# EAGLE library part RNET (library paper_tape)
Resistor Network
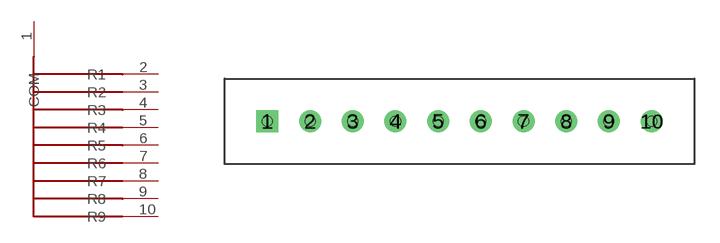
[diagram p3: symbol with the pads of SIP10; footprint SIP10]

Designator prefix RN

## RNET  [SIP10]
1  COM
2  R1
3  R2
4  R3
5  R4
6  R5
7  R6
8  R7
9  R8
10  R9

## Footprint SIP10 (pad centres in mm)
drill 0.8 square: 1 -10.16,0
drill 0.8: 2 -7.62,0; 3 -5.08,0; 4 -2.54,0; 5 0,0; 6 2.54,0; 7 5.08,0; 8 7.62,0; 9 10.16,0; 10 12.7,0
hole 0.6 at -10.16,0
hole 0.6 at -7.62,0
hole 0.6 at -5.08,0
hole 0.6 at -2.54,0
hole 0.6 at 0,0
hole 0.6 at 2.54,0
hole 0.6 at 5.08,0
hole 0.6 at 7.62,0
hole 0.6 at 10.16,0
hole 0.6 at 12.7,0